# EAGLE library part LC4064ZE_XXTN100 (library lattice_ispMACH4000ZE)
ispMACH 4064ZE TQFP100 Lattice Semiconductor Corporation - ispMACH 4000ZE Ultra Low Power, Low Cost CPLD Family Generated using Lattice BSDL models: http://www.latticesemi.com/dynamic/index.cfm?fuseaction=view_documents&document_type=36&sloc=01-01-02-01&source=sidebar
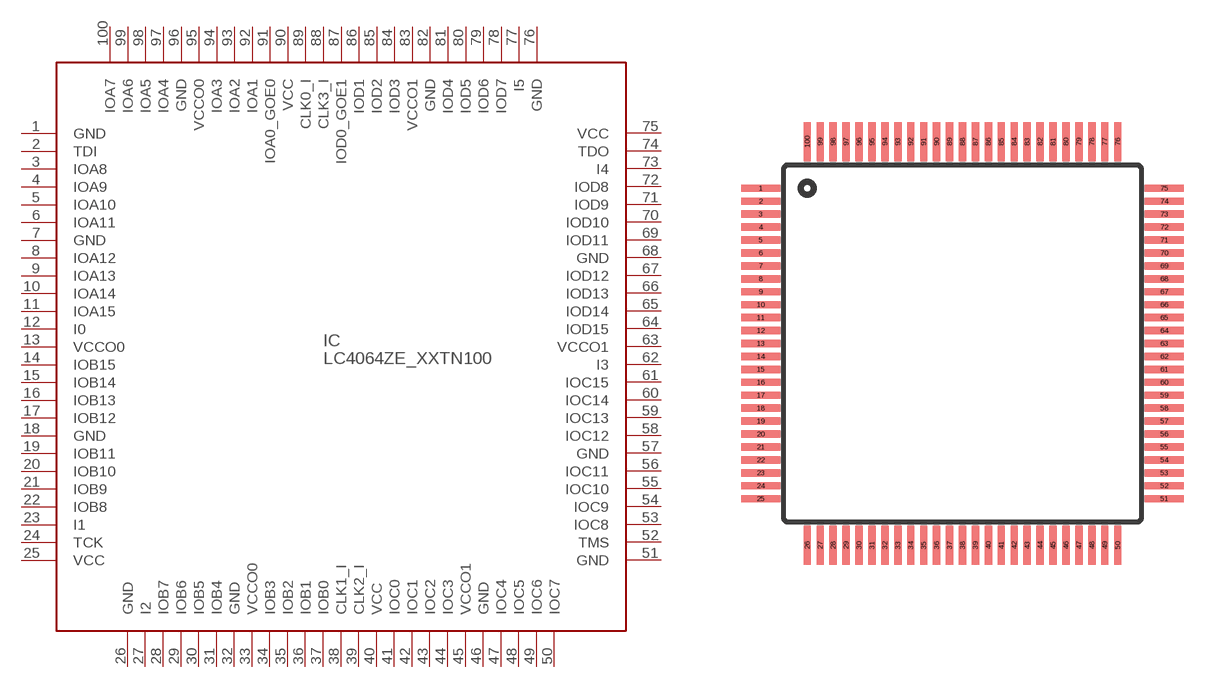
[diagram p2: symbol with the pads of TQFP100; footprint TQFP100]

Designator prefix IC

## LC4064ZE_XXTN100  [TQFP100]
1  GND  pwr
2  TDI  in
3  IOA8
4  IOA9
5  IOA10
6  IOA11
7  GND  pwr
8  IOA12
9  IOA13
10  IOA14
11  IOA15
12  I0  in
13  VCCO0  pwr
14  IOB15
15  IOB14
16  IOB13
17  IOB12
18  GND  pwr
19  IOB11
20  IOB10
21  IOB9
22  IOB8
23  I1  in
24  TCK  in
25  VCC  pwr
26  GND  pwr
27  I2  in
28  IOB7
29  IOB6
30  IOB5
31  IOB4
32  GND  pwr
33  VCCO0  pwr
34  IOB3
35  IOB2
36  IOB1
37  IOB0
38  CLK1_I  in
39  CLK2_I  in
40  VCC  pwr
41  IOC0
42  IOC1
43  IOC2
44  IOC3
45  VCCO1  pwr
46  GND  pwr
47  IOC4
48  IOC5
49  IOC6
50  IOC7
51  GND  pwr
52  TMS  in
53  IOC8
54  IOC9
55  IOC10
56  IOC11
57  GND  pwr
58  IOC12
59  IOC13
60  IOC14
61  IOC15
62  I3  in
63  VCCO1  pwr
64  IOD15
65  IOD14
66  IOD13
67  IOD12
68  GND  pwr
69  IOD11
70  IOD10
71  IOD9
72  IOD8
73  I4  in
74  TDO  out
75  VCC  pwr
76  GND  pwr
77  I5  in
78  IOD7
79  IOD6
80  IOD5
81  IOD4
82  GND  pwr
83  VCCO1  pwr
84  IOD3
85  IOD2
86  IOD1
87  IOD0_GOE1
88  CLK3_I  in
89  CLK0_I  in
90  VCC  pwr
91  IOA0_GOE0
92  IOA1
93  IOA2
94  IOA3
95  VCCO0  pwr
96  GND  pwr
97  IOA4
98  IOA5
99  IOA6
100  IOA7

## Footprint TQFP100 (pad centres in mm)
TQFP - 100 http://www.latticesemi.com/lit/docs/package/pkg.pdf
smd 1.5 x 0.285: 1 -7.8,6; 2 -7.8,5.5; 3 -7.8,5; 4 -7.8,4.5; 5 -7.8,4; 6 -7.8,3.5; 7 -7.8,3; 8 -7.8,2.5; 9 -7.8,2; 10 -7.8,1.5; 11 -7.8,1; 12 -7.8,0.5; 13 -7.8,0; 14 -7.8,-0.5; 15 -7.8,-1; 16 -7.8,-1.5; 17 -7.8,-2; 18 -7.8,-2.5; 19 -7.8,-3; 20 -7.8,-3.5; 21 -7.8,-4; 22 -7.8,-4.5; 23 -7.8,-5; 24 -7.8,-5.5; 25 -7.8,-6; 51 7.8,-6; 52 7.8,-5.5; 53 7.8,-5; 54 7.8,-4.5; 55 7.8,-4; 56 7.8,-3.5; 57 7.8,-3; 58 7.8,-2.5; 59 7.8,-2; 60 7.8,-1.5; 61 7.8,-1; 62 7.8,-0.5; 63 7.8,0; 64 7.8,0.5; 65 7.8,1; 66 7.8,1.5; 67 7.8,2; 68 7.8,2.5; 69 7.8,3; 70 7.8,3.5; 71 7.8,4; 72 7.8,4.5; 73 7.8,5; 74 7.8,5.5; 75 7.8,6
smd 0.285 x 1.5: 26 -6,-7.8; 27 -5.5,-7.8; 28 -5,-7.8; 29 -4.5,-7.8; 30 -4,-7.8; 31 -3.5,-7.8; 32 -3,-7.8; 33 -2.5,-7.8; 34 -2,-7.8; 35 -1.5,-7.8; 36 -1,-7.8; 37 -0.5,-7.8; 38 0,-7.8; 39 0.5,-7.8; 40 1,-7.8; 41 1.5,-7.8; 42 2,-7.8; 43 2.5,-7.8; 44 3,-7.8; 45 3.5,-7.8; 46 4,-7.8; 47 4.5,-7.8; 48 5,-7.8; 49 5.5,-7.8; 50 6,-7.8; 76 6,7.8; 77 5.5,7.8; 78 5,7.8; 79 4.5,7.8; 80 4,7.8; 81 3.5,7.8; 82 3,7.8; 83 2.5,7.8; 84 2,7.8; 85 1.5,7.8; 86 1,7.8; 87 0.5,7.8; 88 0,7.8; 89 -0.5,7.8; 90 -1,7.8; 91 -1.5,7.8; 92 -2,7.8; 93 -2.5,7.8; 94 -3,7.8; 95 -3.5,7.8; 96 -4,7.8; 97 -4.5,7.8; 98 -5,7.8; 99 -5.5,7.8; 100 -6,7.8